# EAGLE library part VICOR_MINI (library ijrobotics)
VICOR MINI
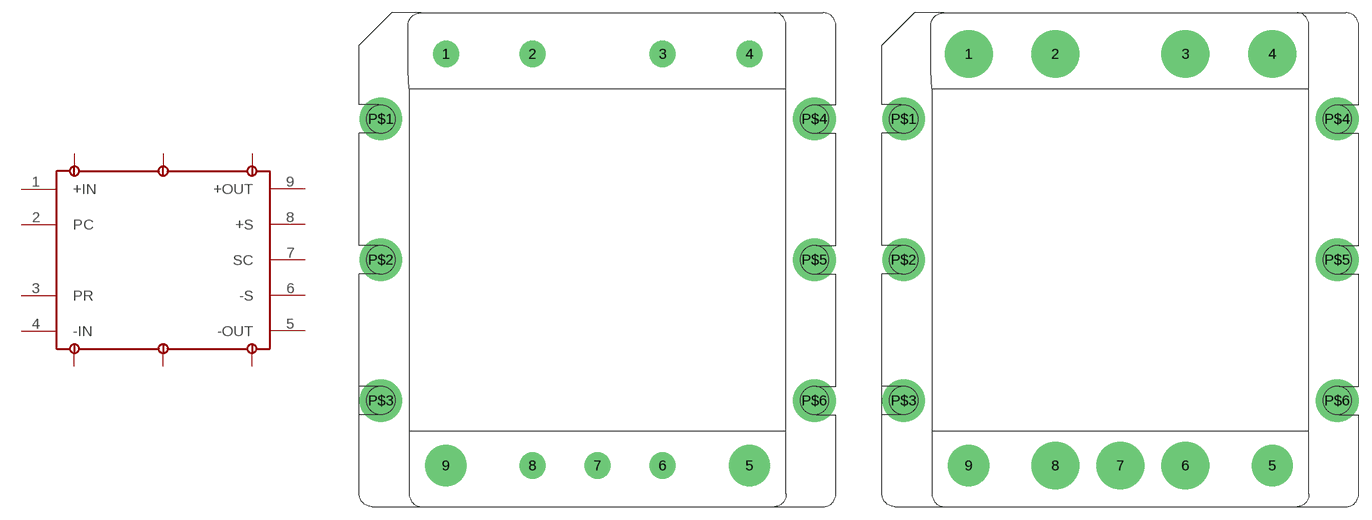
[diagram p11: symbol with the pads of VICOR_MINI; footprints VICOR_MINI, VICOR_MINI_PCB]

Designator prefix -

## VICOR_MINIA  [VICOR_MINI]
1  +IN  in
2  PC  pas
3  PR  pas
4  -IN  in
5  -OUT  out
6  -S  pas
7  SC  pas
8  +S  pas
9  +OUT  out
P$1  P$1  pas
P$2  P$2  pas
P$3  P$3  pas
P$4  P$4  pas
P$5  P$5  pas
P$6  P$6  pas

## VICOR_MINIPCB  [VICOR_MINI_PCB]
Pads as for VICOR_MINI

## Footprint VICOR_MINI (pad centres in mm)
VICOR MINI
drill 2.032: 1 -17.78,24.13; 2 -7.62,24.13; 3 7.62,24.13; 4 17.78,24.13; 6 7.62,-24.13; 7 0,-24.13; 8 -7.62,-24.13
drill 3.81: 5 17.78,-24.13; 9 -17.78,-24.13
drill 4: P$1 -25.4,16.51; P$2 -25.4,0; P$3 -25.4,-16.51; P$4 25.4,16.51; P$5 25.4,0; P$6 25.4,-16.51

## Footprint VICOR_MINI_PCB (pad centres in mm)
VICOR MINI PARA PCB Tiene conectores que se adaptan al pcb
drill 4.6: 1 -17.78,25.4; 2 -7.62,25.4; 3 7.62,25.4; 4 17.78,25.4; 6 7.62,-22.86; 7 0,-22.86; 8 -7.62,-22.86
drill 3.81: 5 17.78,-22.86; 9 -17.78,-22.86
drill 4: P$1 -25.4,17.78; P$2 -25.4,1.27; P$3 -25.4,-15.24; P$4 25.4,17.78; P$5 25.4,1.27; P$6 25.4,-15.24